# Altium footprint library LD39020ADTPU18R.PcbLib: 1 footprints
Each footprint in its own frame and in the unit in brackets; x right, y up, seen from the top. Pads: shape width x height; smd on the part's side, far side on the other; paste and mask are expansions set on the pad; w line width, h text height; cw(c..) or ccw(c..) is an arc to the next point about the centre after c.
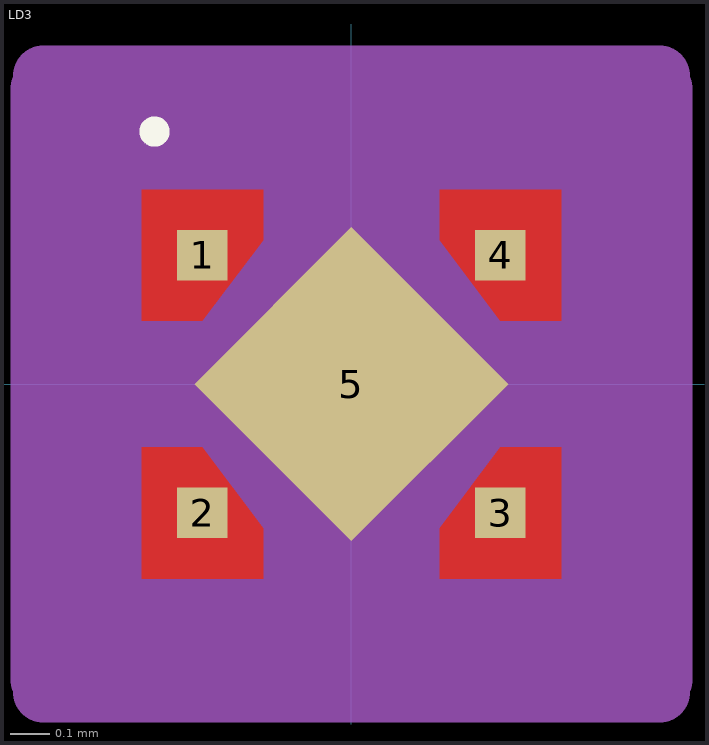
[diagram p0: the footprint, top view; thin cyan lines are the x and y axes]

## LD3 [mil]
pads (5):
  rect 5x5 smd paste-2.5 mask-2.5: 1(-14.75,12.75) 2(-14.75,-12.75) 3(14.75,-12.75) 4(14.75,12.75)
  rect 22x22 smd rot 45 paste-11 mask+0: 5(0,0)
Top Layer:
  region: -20.75,19.25 -20.75,6.25 -14.75,6.25 -8.75,14.25 -8.75,19.25
  region: 20.75,-19.25 20.75,-6.25 14.75,-6.25 8.75,-14.25 8.75,-19.25
  region: -20.75,-19.25 -20.75,-6.25 -14.75,-6.25 -8.75,-14.25 -8.75,-19.25
  region: 20.75,19.25 20.75,6.25 14.75,6.25 8.75,14.25 8.75,19.25
  region: 0,-11
  region: 0,11
Top Overlay:
  circle w2: c-19.5,25 r0.5
Top Paste:
  region: 20.75,19.25 20.75,6.25 14.75,6.25 8.75,14.25 8.75,19.25
  region: 20.75,-19.25 20.75,-6.25 14.75,-6.25 8.75,-14.25 8.75,-19.25
  region: -20.75,-19.25 -20.75,-6.25 -14.75,-6.25 -8.75,-14.25 -8.75,-19.25
  region: -20.75,19.25 -20.75,6.25 -14.75,6.25 -8.75,14.25 -8.75,19.25
Top Solder:
  region: 20.75,19.25 20.75,6.25 14.75,6.25 8.75,14.25 8.75,19.25
  region: 20.75,-19.25 20.75,-6.25 14.75,-6.25 8.75,-14.25 8.75,-19.25
  region: -20.75,-19.25 -20.75,-6.25 -14.75,-6.25 -8.75,-14.25 -8.75,-19.25
  region: -20.75,19.25 -20.75,6.25 -14.75,6.25 -8.75,14.25 -8.75,19.25
  region: 0,-11
  region: 0,11
Mechanical 13:
  lines w0: -12,20.5 ccw(c0,20.5) 12,20.5
  lines w1: -20.5,-20.5 -20.5,20.5 20.5,20.5 20.5,-20.5 -20.5,-20.5
Mechanical 15:
  region: -30,-28.5 -30.25,-28.5 -30.25,30 -30,30 -30,31.25 31,31.25 31,30 31.25,30 31.25,-28.5 31,-28.5 31,-29.75 -30,-29.75
  lines w6: -30.75,-29.25 -30.5,-29.25 -30.5,-30.5 30.5,-30.5 30.5,-29.25 30.75,-29.25 30.75,29.25 30.5,29.25 30.5,30.5 -30.5,30.5 -30.5,29.25 -30.75,29.25 -30.75,-29.25
3D body "LD39020ADTPU18R.stp": height 15.75, standoff 0, extent -19.68,-19.68 19.68,19.68